# Altium schematic symbol library Resistor.SchLib: 23 symbols
Pins are listed as number, name and electrical type; pins without a type are passive.

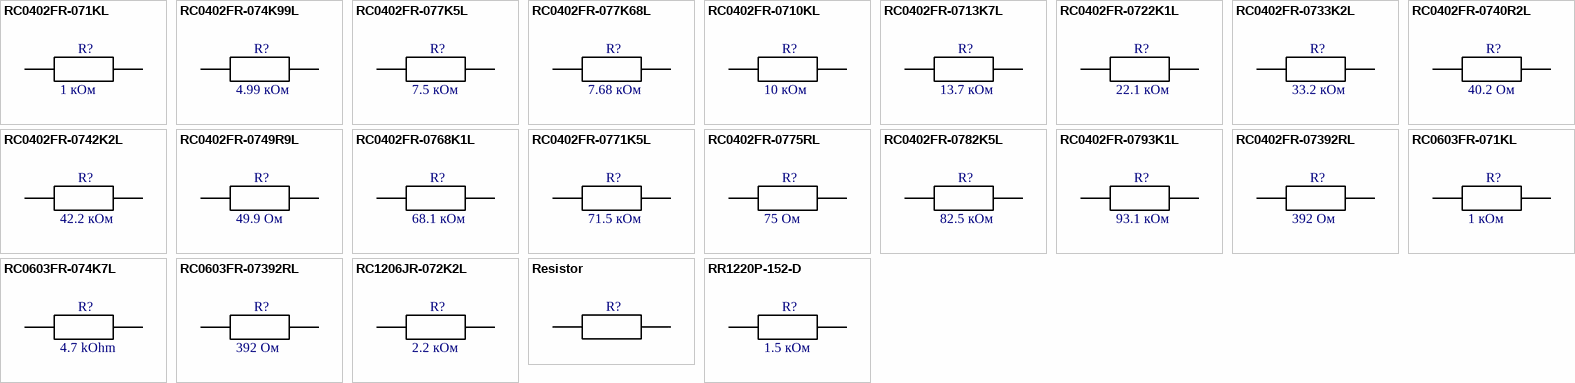
[diagram p0: symbols RC0402FR-071KL to RR1220P-152-D]

## RC0402FR-071KL
designator R?, comment 1 кОм
Резистор 1 kOhms 1% 0.063W, 1/16W Chip Resistor 0402 (1005 Metric) Moisture Resistant Thick Film; Partnumber: RC0402FR-071KL; Value: 1 кОм
footprint RES_0402 (Chip Resistor, 2-Leads, Body 1,0x0,5mm, IPC High Density)
pins: 1, 2

## RC0402FR-074K99L
designator R?, comment 4.99 кОм
Резистор 4.99 kOhms 1% 0.063W, 1/16W Chip Resistor 0402 (1005 Metric) Moisture Resistant Thick Film; Partnumber: RC0402FR-074K99L; Value: 4.99 кОм
footprint RES_0402 (Chip Resistor, 2-Leads, Body 1,0x0,5mm, IPC High Density)
pins: 1, 2

## RC0402FR-077K5L
designator R?, comment 7.5 кОм
Резистор 7.5 kOhms 1% 0.063W, 1/16W Chip Resistor 0402 (1005 Metric) Moisture Resistant Thick Film; Partnumber: RC0402FR-077K5L; Value: 7.5 кОм
footprint RES_0402 (Chip Resistor, 2-Leads, Body 1,0x0,5mm, IPC High Density)
pins: 1, 2

## RC0402FR-077K68L
designator R?, comment 7.68 кОм
Резистор  7.68 kOhms 1% 0.063W, 1/16W Chip Resistor 0402 (1005 Metric) Moisture Resistant Thick Film; Partnumber: RC0402FR-077K68L; Value: 7.68 кОм
footprint RES_0402 (Chip Resistor, 2-Leads, Body 1,0x0,5mm, IPC High Density)
pins: 1, 2

## RC0402FR-0710KL
designator R?, comment 10 кОм
Резистор 10 kOhms 1% 0.063W, 1/16W Chip Resistor 0402 (1005 Metric) Moisture Resistant Thick Film; Partnumber: RC0402FR-0710KL; Value: 10 кОм
footprint RES_0402 (Chip Resistor, 2-Leads, Body 1,0x0,5mm, IPC High Density)
pins: 1, 2

## RC0402FR-0713K7L
designator R?, comment 13.7 кОм
Резистор 13.7 kOhms 1% 0.063W, 1/16W Chip Resistor 0402 (1005 Metric) Moisture Resistant Thick Film; Partnumber: RC0402FR-0713K7L; Value: 13.7 кОм
footprint RES_0402 (Chip Resistor, 2-Leads, Body 1,0x0,5mm, IPC High Density)
pins: 1, 2

## RC0402FR-0722K1L
designator R?, comment 22.1 кОм
Резистор 22.1 kOhms ±1% 0.063W, 1/16W Chip Resistor 0402 (1005 Metric) Moisture Resistant Thick Film; Partnumber: RC0402FR-0722K1L; Value: 22.1 кОм
footprint RES_0402 (Chip Resistor, 2-Leads, Body 1,0x0,5mm, IPC High Density)
pins: 1, 2

## RC0402FR-0733K2L
designator R?, comment 33.2 кОм
Резистор 33.2 kOhms 1% 0.063W, 1/16W Chip Resistor 0402 (1005 Metric) Moisture Resistant Thick Film; Partnumber: RC0402FR-0733K2L; Value: 33.2 кОм
footprint RES_0402 (Chip Resistor, 2-Leads, Body 1,0x0,5mm, IPC High Density)
pins: 1, 2

## RC0402FR-0740R2L
designator R?, comment 40.2 Ом
Резистор 40.2 Ohms 1% 0.063W, 1/16W Chip Resistor 0402 (1005 Metric) Moisture Resistant Thick Film; Partnumber: RC0402FR-0740R2L; Value: 40.2 Ом
footprint RES_0402 (Chip Resistor, 2-Leads, Body 1,0x0,5mm, IPC High Density)
pins: 1, 2

## RC0402FR-0742K2L
designator R?, comment 42.2 кОм
Резистор 42.2 kOhms 1% 0.063W, 1/16W Chip Resistor 0402 (1005 Metric) Moisture Resistant Thick Film; Partnumber: RC0402FR-0742K2L; Value: 42.2 кОм
footprint RES_0402 (Chip Resistor, 2-Leads, Body 1,0x0,5mm, IPC High Density)
pins: 1, 2

## RC0402FR-0749R9L
designator R?, comment 49.9 Ом
Резистор 49.9 Ohms 1% 0.063W, 1/16W Chip Resistor 0402 (1005 Metric) Moisture Resistant Thick Film; Partnumber: RC0402FR-0749R9L; Value: 49.9 Ом
footprint RES_0402 (Chip Resistor, 2-Leads, Body 1,0x0,5mm, IPC High Density)
pins: 1, 2

## RC0402FR-0768K1L
designator R?, comment 68.1 кОм
Резистор 68.1 kOhms ±1% 0.063W, 1/16W Chip Resistor 0402 (1005 Metric) Moisture Resistant Thick Film; Partnumber: RC0402FR-0768K1L; Value: 68.1 кОм
footprint RES_0402 (Chip Resistor, 2-Leads, Body 1,0x0,5mm, IPC High Density)
pins: 1, 2

## RC0402FR-0771K5L
designator R?, comment 71.5 кОм
Резистор 71.5 kOhms 1% 0.063W, 1/16W Chip Resistor 0402 (1005 Metric) Moisture Resistant Thick Film; Partnumber: RC0402FR-0771K5L; Value: 71.5 кОм
footprint RES_0402 (Chip Resistor, 2-Leads, Body 1,0x0,5mm, IPC High Density)
pins: 1, 2

## RC0402FR-0775RL
designator R?, comment 75 Ом
Резистор 75 Ohms 1% 0.063W, 1/16W Chip Resistor 0402 (1005 Metric) Moisture Resistant Thick Film; Partnumber: RC0402FR-0775RL; Value: 75 Ом
footprint RES_0402 (Chip Resistor, 2-Leads, Body 1,0x0,5mm, IPC High Density)
pins: 1, 2

## RC0402FR-0782K5L
designator R?, comment 82.5 кОм
Резистор 82.5 kOhms 1% 0.063W, 1/16W Chip Resistor 0402 (1005 Metric) Moisture Resistant Thick Film; Partnumber: RC0402FR-0782K5L; Value: 82.5 кОм
footprint RES_0402 (Chip Resistor, 2-Leads, Body 1,0x0,5mm, IPC High Density)
pins: 1, 2

## RC0402FR-0793K1L
designator R?, comment 93.1 кОм
Резистор 93.1 kOhms ±1% 0.063W, 1/16W Chip Resistor 0402 (1005 Metric) Moisture Resistant Thick Film; Partnumber: RC0402FR-0793K1L; Value: 93.1 кОм
footprint RES_0402 (Chip Resistor, 2-Leads, Body 1,0x0,5mm, IPC High Density)
pins: 1, 2

## RC0402FR-07392RL
designator R?, comment 392 Ом
Резистор 392 Ohms 1% 0.063W, 1/16W Chip Resistor 0402 (1005 Metric) Moisture Resistant Thick Film; Partnumber: RC0402FR-07392RL; Value: 392 Ом
footprint RES_0402 (Chip Resistor, 2-Leads, Body 1,0x0,5mm, IPC High Density)
pins: 1, 2

## RC0603FR-071KL
designator R?, comment 1 кОм
Резистор 1 kOhms 1% 0.1W, 1/10W Chip Resistor 0603 (1608 Metric) Moisture Resistant Thick Film; Partnumber: RC0603FR-071KL; Value: 1 кОм
footprint RES_0603 (Chip Resistor, 2-Leads, Body 1,6x0,8mm, IPC High Density)
pins: 1, 2

## RC0603FR-074K7L
designator R?, comment 4.7 kOhm
Резистор 4.7 kOhms 1% 0.1W, 1/10W Chip Resistor 0603 (1608 Metric) Moisture Resistant Thick Film; Partnumber: RC0603FR-074K7L; Value: 4.7 kOhm
footprint RES_0603 (Chip Resistor, 2-Leads, Body 1,6x0,8mm, IPC High Density)
pins: 1, 2

## RC0603FR-07392RL
designator R?, comment 392 Ом
Резистор 392 Ohms 1% 0.1W, 1/10W Chip Resistor 0603 (1608 Metric) Moisture Resistant Thick Film; Partnumber: RC0603FR-07392RL; Value: 392 Ом
footprint RES_0603 (Chip Resistor, 2-Leads, Body 1,6x0,8mm, IPC High Density)
pins: 1, 2

## RC1206JR-072K2L
designator R?, comment 2.2 кОм
Резистор 2.2 kOhms 5% 0.25W, 1/4W Chip Resistor 1206 (3216 Metric); Partnumber: RC1206JR-072K2L; Value: 2.2 кОм
footprint RES_1206 (Chip Resistor, 2-Leads, Body 3,1x1,6mm, IPC High Density)
pins: 1, 2

## Resistor
designator R?
pins: 1, 2

## RR1220P-152-D
designator R?, comment 1.5 кОм
Резистор 1.5 kOhms ±0.5% 0.1W, 1/10W Chip Resistor 0805 (2012 Metric) Thin Film; Partnumber: RR1220P-152-D; Value: 1.5 кОм
footprint RES_0805 (Chip Resistor, 2-Leads, Body 2,1x1,3mm, IPC High Density)
pins: 1, 2